# EAGLE library part SN74LVC2T45 (library signpost)
Bidirectional Buffer / Level Converter 2 Circuits
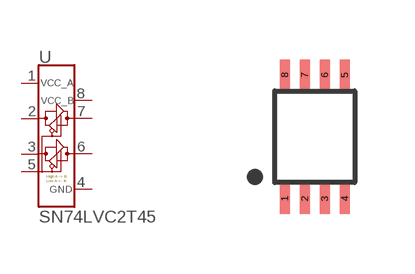
[diagram p14: symbol with the pads of VFSOP-8; footprint VFSOP-8]

Designator prefix U

## SN74LVC2T45 (DIGIKEY: 296-17014-1-ND)  [VFSOP-8]
1  VCC_A
2  A1
3  A2
4  GND
5  DIR
6  B2
7  B1
8  VCC_B

## Footprint VFSOP-8 (pad centres in mm)
smd 0.25 x 0.75: 1 -0.75,-1.55; 2 -0.25,-1.55; 3 0.25,-1.55; 4 0.75,-1.55; 5 0.75,1.55; 6 0.25,1.55; 7 -0.25,1.55; 8 -0.75,1.55